# Altium schematic symbol library MAX4080.SchLib: 1 symbol
Pins are listed as number, name and electrical type; pins without a type are passive.

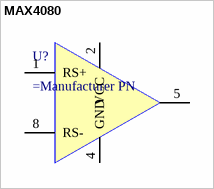
[diagram p0: symbol MAX4080]

## MAX4080
designator U?
MAX4080 current sense amplifier
pins: 1 RS+, 2 VCC, 3 NC hidden, 4 GND, 5 OUT, 6 NC hidden, 7 NC hidden, 8 RS-